# Altium schematic symbol library PCB_Project.SCHLIB: 1 symbol
Pins are listed as number, name and electrical type; pins without a type are passive.

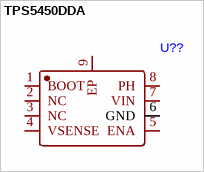
[diagram p0: symbol TPS5450DDA]

## TPS5450DDA
designator U??
footprint SOP-8_L4.9-W3.9-P1.27-LS6.0-TL-EP-1
pins: 1 BOOT, 2 NC, 3 NC, 4 VSENSE, 5 ENA, 6 GND, 7 VIN, 8 PH, 9 EP